# EAGLE library part SENS_RTC_AB08 (library SNWCT_EAGLE_LBR)
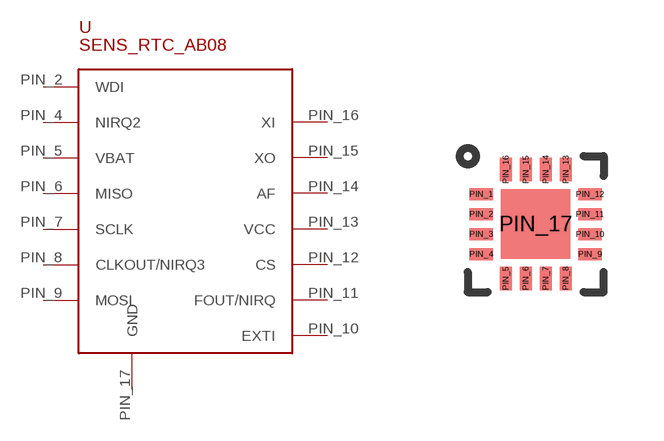
[diagram p5: symbol with the pads of QFN16_3X3; footprint QFN16_3X3]

Designator prefix -

## SENS_RTC_AB08  [QFN16_3X3]
PIN_2  WDI
PIN_4  NIRQ2
PIN_5  VBAT
PIN_6  MISO
PIN_7  SCLK
PIN_8  CLKOUT/NIRQ3
PIN_9  MOSI
PIN_10  EXTI
PIN_11  FOUT/NIRQ
PIN_12  CS
PIN_13  VCC
PIN_14  AF
PIN_15  XO
PIN_16  XI
PIN_17  GND

## Footprint QFN16_3X3 (pad centres in mm)
smd 0.58 x 0.3: PIN_1 -1.36,0.75; PIN_2 -1.36,0.25; PIN_3 -1.36,-0.25; PIN_4 -1.36,-0.75; PIN_9 1.36,-0.75; PIN_10 1.36,-0.25; PIN_11 1.36,0.25; PIN_12 1.36,0.75
smd 0.3 x 0.58: PIN_5 -0.75,-1.36; PIN_6 -0.25,-1.36; PIN_7 0.25,-1.36; PIN_8 0.75,-1.36; PIN_13 0.75,1.36; PIN_14 0.25,1.36; PIN_15 -0.25,1.36; PIN_16 -0.75,1.36
smd 1.74 x 1.74: PIN_17 0,0